# Altium schematic symbol library McMaster.SCHLIB: 1 symbol
Pins are listed as number, name and electrical type; pins without a type are passive.

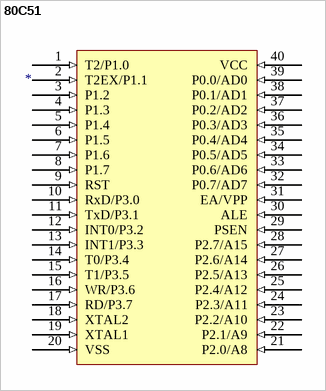
[diagram p0: symbol 80C51]

## 80C51
designator ?
footprint DIP40
pins: 1 T2/P1.0 (in), 2 T2EX/P1.1 (in), 3 P1.2 (in), 4 P1.3 (in), 5 P1.4 (in), 6 P1.5 (in), 7 P1.6 (in), 8 P1.7 (in), 9 RST (in), 10 RxD/P3.0 (in), 11 TxD/P3.1 (in), 12 INT0/P3.2 (in), 13 INT1/P3.3 (in), 14 T0/P3.4 (in), 15 T1/P3.5 (in), 16 WR/P3.6 (in), 17 RD/P3.7 (in), 18 XTAL2 (in), 19 XTAL1 (in), 20 VSS (in), 21 P2.0/A8 (in), 22 P2.1/A9 (in), 23 P2.2/A10 (in), 24 P2.3/A11 (in), 25 P2.4/A12 (in), 26 P2.5/A13 (in), 27 P2.6/A14 (in), 28 P2.7/A15 (in), 29 PSEN (in), 30 ALE (in), 31 EA/VPP (in), 32 P0.7/AD7 (in), 33 P0.6/AD6 (in), 34 P0.5/AD5 (in), 35 P0.4/AD4 (in), 36 P0.3/AD3 (in), 37 P0.2/AD2 (in), 38 P0.1/AD1 (in), 39 P0.0/AD0 (in), 40 VCC (in)